# Altium schematic symbol library DBLS106G.SchLib: 1 symbol
Pins are listed as number, name and electrical type; pins without a type are passive.

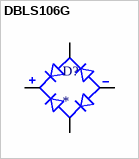
[diagram p0: symbol DBLS106G]

## DBLS106G
designator D?
1A, 800V, Standard Bridge Rectifier; MP: DBLS106G; MF: Taiwan Semiconductor; Availability: In Stock; Purchase-URL: https://pricing.snapeda.com/search/part/DBLS106G/?ref=eda; Package: DBLS Taiwan Semiconductor; SnapEDA_Link: https://www.snapeda.com/parts/DBLS106G/Taiwan+Semiconductor/view-part/?ref=snap; Price: None; Check_prices: https://www.snapeda.com/parts/DBLS106G/Taiwan+Semiconductor/view-part/?ref=eda; Value: *
footprint DIOB_DBLS106G
pins: AC1, AC2, NEG, POS